# Altium footprint library 晶振封装库.PcbLib: 82 footprints (part 4 of 6)
Each footprint in its own frame and in the unit in brackets; x right, y up, seen from the top. Pads: shape width x height; smd on the part's side, far side on the other; paste and mask are expansions set on the pad; w line width, h text height; cw(c..) or ccw(c..) is an arc to the next point about the centre after c.
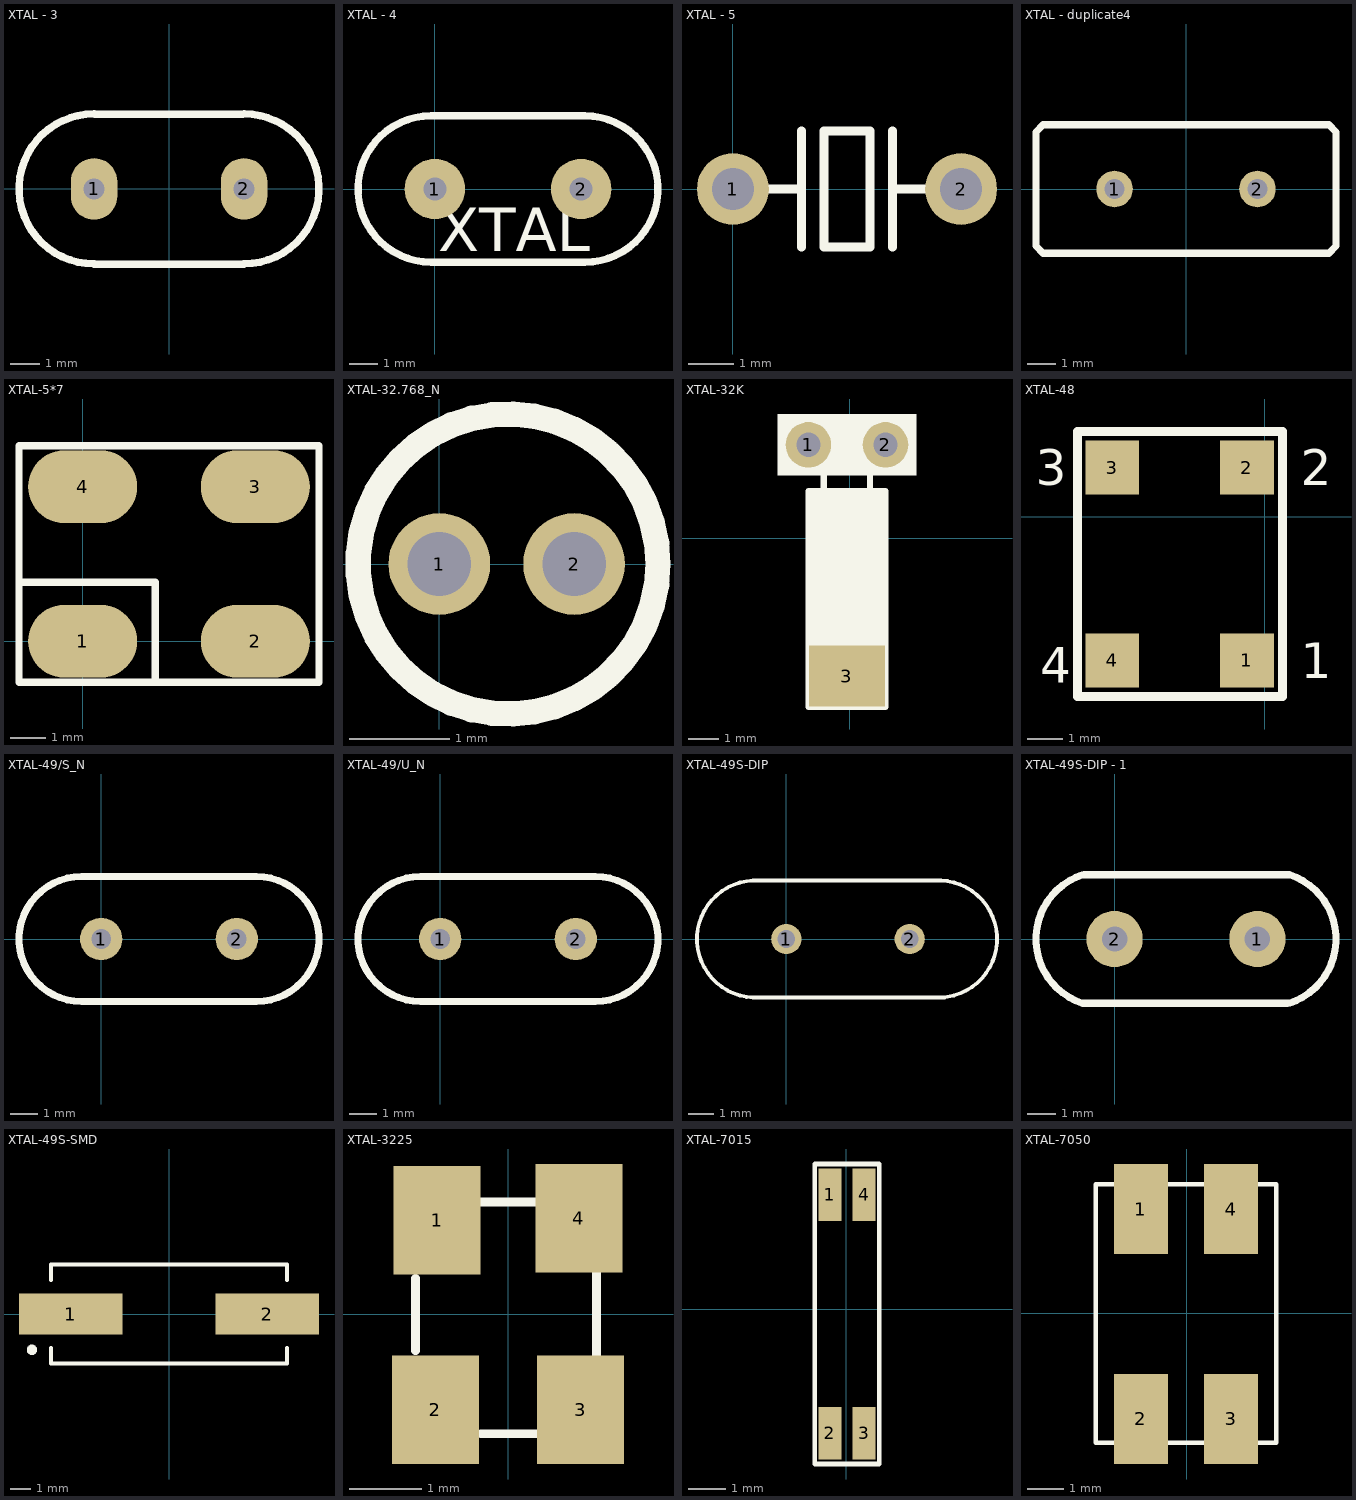
[diagram p3: the footprints below, top view; thin cyan lines are the x and y axes]

## XTAL - 3 [mil]
pads (2):
  oval 62x82 hole 28: 1(-100,0) 2(100,0)
Top Overlay:
  lines w10: -100,-100.39 99.8,-100.39 ; -100,-100 cw(c-100,0) -100,100 ; -99.02,99.41 98.62,99.37 ; 100,-100 ccw(c100,0) 100,100

## XTAL - 4 [mm]
pads (2):
  round 2.1 hole 0.8: 1(0,0) 2(5.08,0)
Top Overlay:
  lines w0.254: -0.127,-2.54 cw(c-0.127,0) -0.127,2.54 5.207,2.54 cw(c5.207,0) 5.207,-2.54 -0.127,-2.54
  text "XTAL" at 0.127,-2.159 h1.52

## XTAL - 5 [mil]
pads (2):
  round 62 hole 36: 1(0,0) 2(196.85,0)
Top Overlay:
  lines w7.87: 6.3,0 56.3,0 ; 59.05,-50 59.05,50 ; 137.79,-50 137.79,50 ; 140.55,0 190.55,0 ; 78.74,-50 118.11,-50 118.11,50 78.74,50 78.74,-50

## XTAL - duplicate4 [mm]
pads (2):
  round 1.3 hole 0.7: 1(-2.54,0) 2(2.54,0)
Top Overlay:
  lines w0.254: -2.54,-2.286 5.08,-2.286 5.334,-2.032 5.334,2.032 5.08,2.286 -2.54,2.286 -5.08,2.286 -5.334,2.032 -5.334,-2.032 -5.08,-2.286 -1.524,-2.286

## XTAL-5*7 [mil]
pads (4):
  oval 120x80 smd: 1(0,0) 2(190,0) 3(190,170) 4(0,170)
Top Overlay:
  lines w8: -70,65 80,65 80,-45 ; -70,-45 -70,215 260,215 260,-45 -70,-45

## XTAL-32.768_N [mil]
pads (2):
  round 40 hole 25: 1(0,0) 2(53,0)
Top Overlay:
  circle w10: c27,0 r59

## XTAL-32K [mm]
pads (3):
  round 1.5 hole 0.8: 1(-1.365,3.075) 2(1.175,3.075)
  rect 2.5x2 smd: 3(-0.095,-4.545)
Top Overlay:
  region: 2.192,4.09 -2.38,4.09 -2.38,2.058 2.192,2.058
  region: 1.176,1.55 -1.364,1.55 -1.364,-3.911 1.176,-3.911
  lines w0.203: -0.857,1.551 -0.857,2.186 ; 0.667,1.551 0.667,2.186 ; -1.365,-5.561 1.175,-5.561 1.175,1.551 -1.365,1.551 -1.365,-5.561

## XTAL-48 [mil]
pads (4):
  rect 60x60 smd: 1(-20,-160) 2(-20,55) 3(-170,55) 4(-170,-160)
Top Overlay:
  lines w10: -208.71,-200 -208.71,95 -5,95 20,95 20,-200 -8.1,-200 -208.71,-200
  text "1" at 40,-180 h39.37
  text "2" at 40,35 h39.37
  text "3" at -255,35 h39.37
  text "4" at -250,-185 h39.37

## XTAL-49/S_N [mil] "短型晶振（未加焊）"
pads (2):
  round 60 hole 28: 1(0,0) 2(192,0)
Top Overlay:
  lines w10: -28,-88.5 cw(c-28,0) -28,88.5 220,88.5 cw(c220,0) 220,-88.5 -28,-88.5
3D body "hc-49s_n.stp": height 137.8, standoff -118.11, extent -116.14,-89.37 309.06,87.8

## XTAL-49/U_N [mil] "高型晶振（未加焊）"
pads (2):
  round 60 hole 28: 1(0,0) 2(192,0)
Top Overlay:
  lines w10: -28,-88.5 cw(c-28,0) -28,88.5 220,88.5 cw(c220,0) 220,-88.5 -28,-88.5
3D body "hc-49u_n.stp": height 511.81, standoff -118.11, extent -116.54,-88.39 308.66,88.78

## XTAL-49S-DIP [mm]
pads (2):
  round 1.2 hole 0.7: 1(0,0) 2(4.9,0)
Top Overlay:
  lines w0.15: -1.322,-2.323 cw(c-1.221,0) -1.317,2.323 ; -1.32,-2.325 -0.843,-2.325 6.28,-2.325 ; -1.315,2.325 -1.06,2.325 6.136,2.325 ; 6.136,2.325 cw(c6.04,0.002) 6.141,-2.321
3D body "hc-49s_n.stp": height 3.5, standoff -3, extent -3.077,-2.143 7.723,2.357

## XTAL-49S-DIP - 1 [mm]
pads (2):
  round 2 hole 0.9: 1(5.08,0) 2(0,0)
Top Overlay:
  lines w0.254: -1.144,-2.289 cw(c-0.391,-0.003) -1.142,2.283 ; -1.143,-2.286 6.144,-2.286 ; -1.09,2.286 6.223,2.286 ; 6.222,-2.283 ccw(c5.471,0.003) 6.224,2.289
3D body "SW3dPS-HP49US.STEP": height 3.5, standoff -4, extent -3.092,-2.331 8.258,2.319

## XTAL-49S-SMD [mm]
pads (2):
  rect 5x2 smd: 1(-4.75,0) 2(4.75,0)
Top Overlay:
  circle w0.25: c-6.625,-1.73 r0.125
  lines w0.2: -5.7,-1.65 -5.7,-2.4 5.7,-2.4 5.7,-1.65 ; -5.7,1.65 -5.7,2.4 5.7,2.4 5.7,1.65
3D body "User Library-hc49_cystal.STEP": height 4, standoff 0, extent -6.7,-2.462 6.7,2.438

## XTAL-3225 [mm]
pads (4):
  rect 1.2x1.5 smd: 1(-0.978,1.295) 2(-1.003,-1.321) 3(1.003,-1.321) 4(0.978,1.321)
Top Overlay:
  lines w0.12: -1.278,-0.505 -1.278,0.495 ; -0.378,-1.655 0.422,-1.655 ; -0.378,1.545 0.422,1.545 ; 1.222,-0.605 1.222,0.595
3D body "XTAL-3225.STEP": height 0.8, standoff 0, extent -1.268,-1.651 1.232,1.549

## XTAL-7015 [mil]
pads (4):
  rect 23.62x55 smd: 1(-17,119) 2(-17,-129.03) 3(18.43,-129.03) 4(18.43,119)
Top Overlay:
  lines w4.72: -32.75,-161 -32.75,151 34.18,151 34.18,-161 -32.75,-161
3D body "xtal6713.STEP": height 51.18, standoff 0, extent -25,-148.9 26.18,136.9

## XTAL-7050 [mm]
pads (4):
  rect 1.5x2.5 smd: 1(-1.27,2.894) 2(-1.27,-2.922) 3(1.23,-2.922) 4(1.23,2.894)
Top Overlay:
  lines w0.12: -2.52,-3.581 2.48,-3.581 2.48,3.581 -2.52,3.581 -2.52,-3.581
3D body "XTAL-7050.STEP": height 1, standoff 0, extent -2.5,-3.449 2.5,3.551